# Altium footprint library 8-HTSOP-J.PcbLib: 1 footprints
Each footprint in its own frame and in the unit in brackets; x right, y up, seen from the top. Pads: shape width x height; smd on the part's side, far side on the other; paste and mask are expansions set on the pad; w line width, h text height; cw(c..) or ccw(c..) is an arc to the next point about the centre after c.
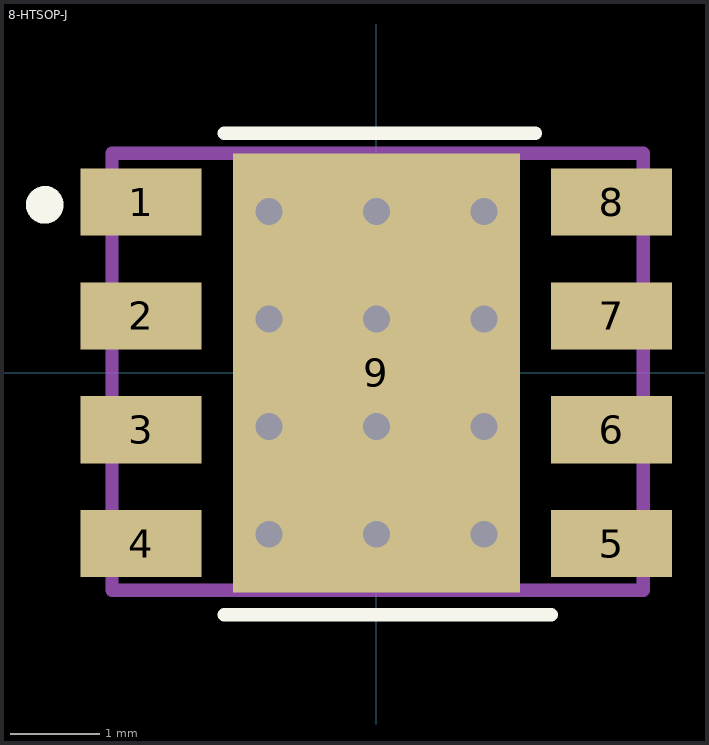
[diagram p0: the footprint, top view; thin cyan lines are the x and y axes]

## 8-HTSOP-J [mm]
pads (9):
  rect 1.35x0.75 smd mask+0.051: 1(-2.625,1.905) 2(-2.625,0.635) 3(-2.625,-0.635) 4(-2.625,-1.905) 5(2.625,-1.905) 6(2.625,-0.635) 7(2.625,0.635) 8(2.625,1.905)
  rect 3.2x4.9 smd mask+0.051: 9(0,0)
via 0,0.6 diameter 0.6 hole 0.3
via 0,-0.6 diameter 0.6 hole 0.3
via 1.2,0.6 diameter 0.6 hole 0.3
via 1.2,-0.6 diameter 0.6 hole 0.3
via 1.2,-1.8 diameter 0.6 hole 0.3
via 0,-1.8 diameter 0.6 hole 0.3
via -1.2,-1.8 diameter 0.6 hole 0.3
via -1.2,-0.6 diameter 0.6 hole 0.3
via -1.2,0.6 diameter 0.6 hole 0.3
via -1.2,1.8 diameter 0.6 hole 0.3
via 0,1.8 diameter 0.6 hole 0.3
via 1.2,1.8 diameter 0.6 hole 0.3
Top Overlay:
  circle w0.22: c-3.7,1.875 r0.1
  lines w0.15: -1.7,-2.7 1.95,-2.7 ; -1.7,2.675 1.775,2.675
Mechanical 13:
  lines w0.15: -2.95,-2.425 2.975,-2.425 2.975,2.45 -2.95,2.45 -2.95,-2.425
Mechanical 15:
  lines w0.15: -1,0 0,0 ; 0,0 0,1 0,0 ; 0,0 0,-1 0,0 ; 0,0 1,0 0,0
3D body "BD33HC5WEFJ-E2.step": height 0.93, standoff -0.07, extent -3,-2.45 3,2.45